# Altium footprint library RESISTOR.PcbLib: 17 footprints (part 2 of 2)
Each footprint in its own frame and in the unit in brackets; x right, y up, seen from the top. Pads: shape width x height; smd on the part's side, far side on the other; paste and mask are expansions set on the pad; w line width, h text height; cw(c..) or ccw(c..) is an arc to the next point about the centre after c.
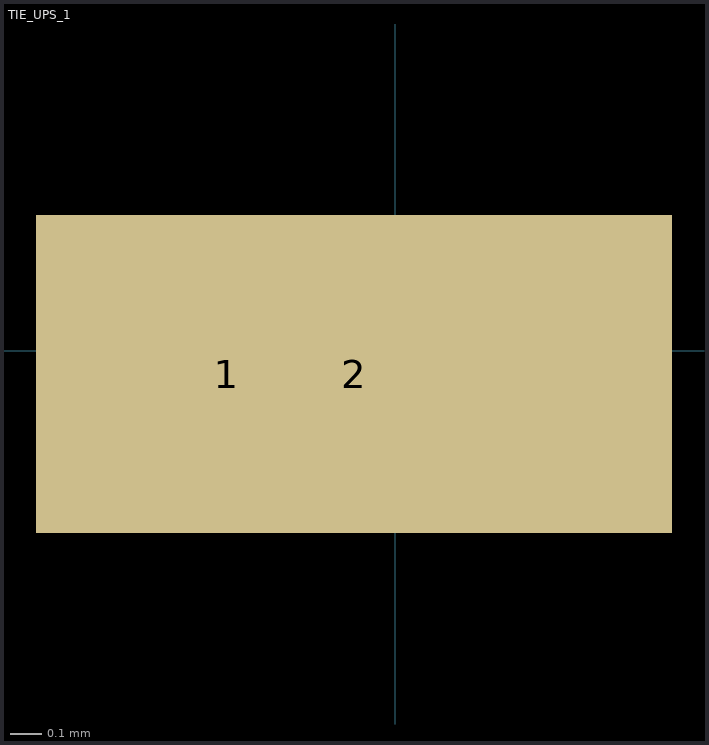
[diagram p1: the footprint, top view; thin cyan lines are the x and y axes]

## TIE_UPS_1 [mm]
pads (2):
  rect 1x1 smd paste-0.254 mask+0.102: 1(-0.53,-0.073)
  rect 2x1 smd paste-0.254 mask+0.102: 2(-0.13,-0.073)
Top Layer:
  region: -0.66,0.054 0,0.054 0,-0.2 -0.66,-0.2